# EAGLE library part MCP2551 (library mcp2515_2551)
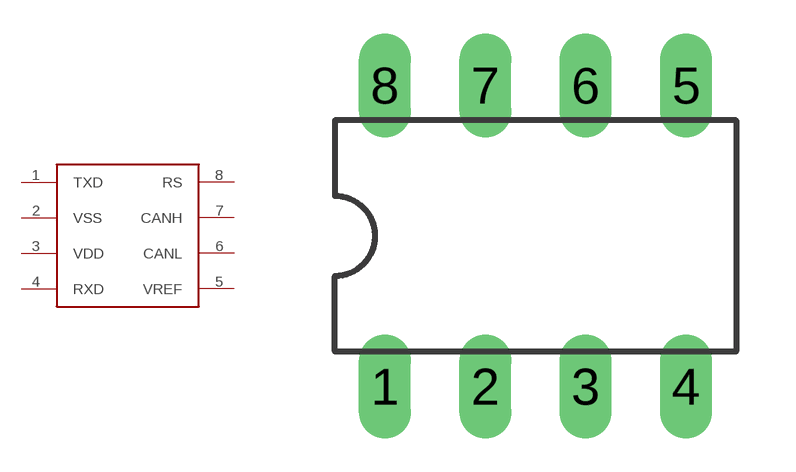
[diagram p1: symbol with the pads of MPC2551; footprint MPC2551]

Designator prefix -

## MCP2551-I/P  [MPC2551]
1  TXD
2  VSS  pwr
3  VDD  pwr
4  RXD
5  VREF
6  CANL
7  CANH
8  RS

## Footprint MPC2551 (pad centres in mm)
drill 0.813 long: 1 -2.54,1.27; 2 0,1.27; 3 2.54,1.27; 4 5.08,1.27; 5 5.08,8.89; 6 2.54,8.89; 7 0,8.89; 8 -2.54,8.89